# Altium footprint library Polyester Capacitors 250V.PcbLib: 1 footprints
Each footprint in its own frame and in the unit in brackets; x right, y up, seen from the top. Pads: shape width x height; smd on the part's side, far side on the other; paste and mask are expansions set on the pad; w line width, h text height; cw(c..) or ccw(c..) is an arc to the next point about the centre after c.
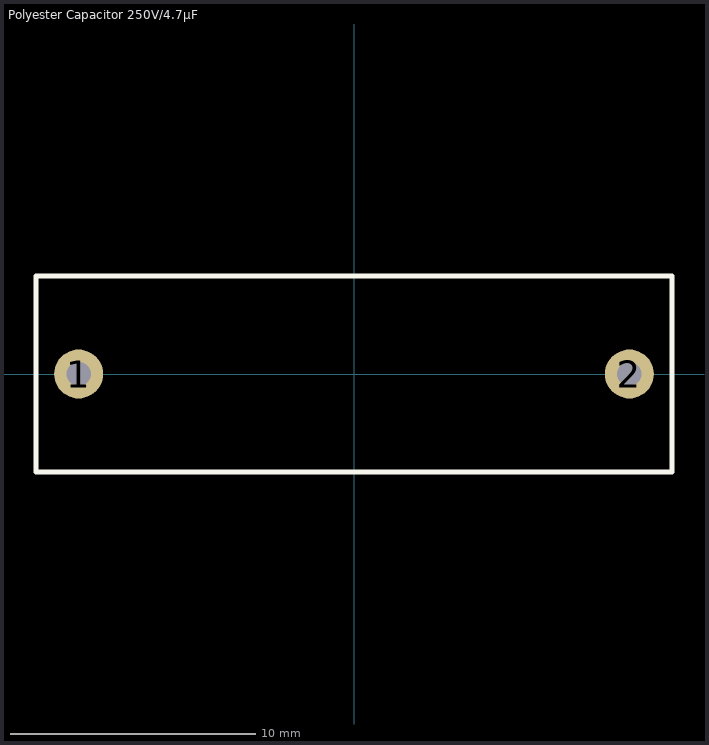
[diagram p0: the footprint, top view; thin cyan lines are the x and y axes]

## Polyester Capacitor 250V/4.7µF [mm] "4.7µF Film Capacitor  250V Polyester, Metallized Radial"
pads (2):
  round 2 hole 1: 1(-11.25,0) 2(11.25,0)
Top Overlay:
  lines w0.2: -13,-4 -13,4 13,4 13,-4 -13,-4
3D body "User Library-ECQE(F) 0_33uf 630Vdc 250Vac.step": height 19, standoff -3, extent -13.05,-3.9 12.95,3.9